# Altium footprint library Fuse.PcbLib: 117 footprints (part 7 of 8)
Each footprint in its own frame and in the unit in brackets; x right, y up, seen from the top. Pads: shape width x height; smd on the part's side, far side on the other; paste and mask are expansions set on the pad; w line width, h text height; cw(c..) or ccw(c..) is an arc to the next point about the centre after c.
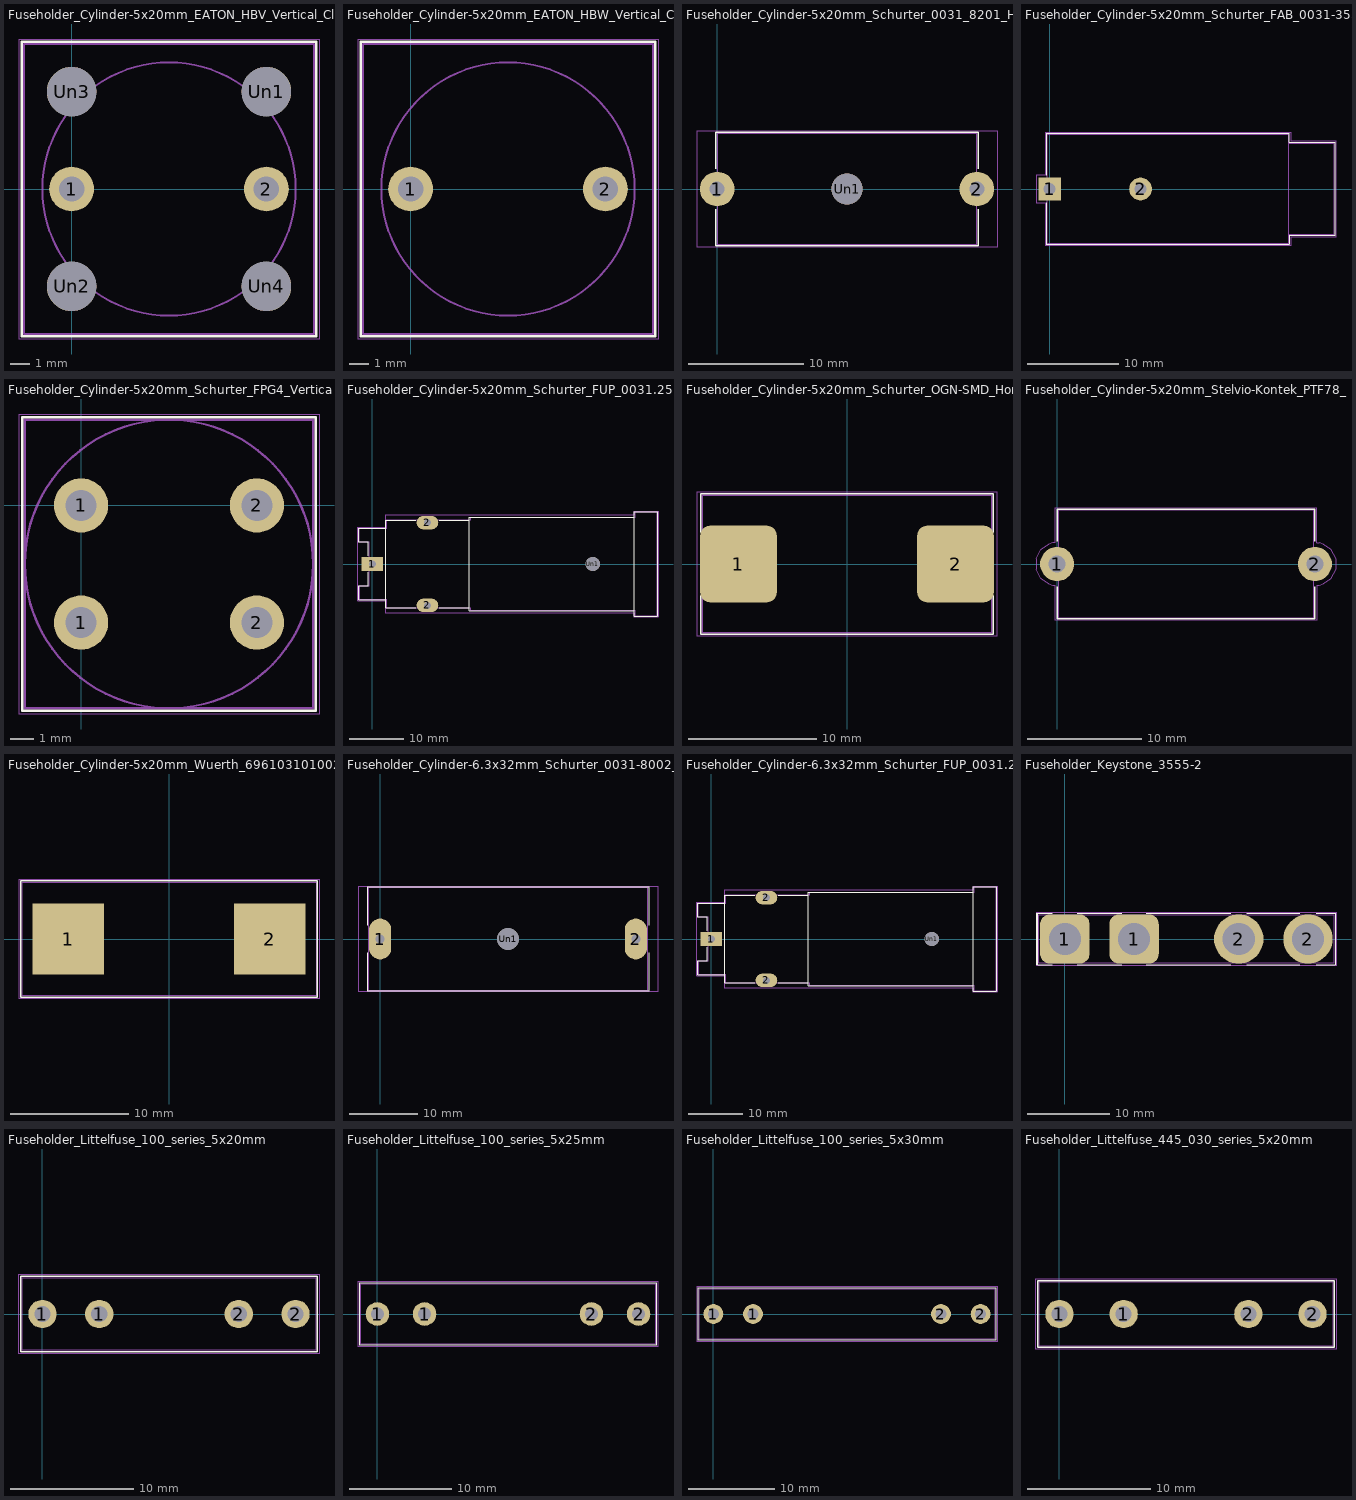
[diagram p6: the footprints below, top view; thin cyan lines are the x and y axes]

## Fuseholder_Cylinder-5x20mm_EATON_HBV_Vertical_Closed [mm]
pads (6):
  round 2.3 hole 1.3: 1(0,0) 2(10,0)
  round 2.54 hole 2.54: Un1(10,5) Un2(0,-5) Un3(0,5) Un4(10,-5)
F.SilkS:
  lines w0.12: -2.56,-7.56 12.56,-7.56 12.56,7.56 -2.56,7.56 -2.56,-7.56
F.CrtYd:
  lines w0.05: -2.7,-7.7 12.7,-7.7 12.7,7.7 -2.7,7.7 -2.7,-7.7
F.Fab:
  circle w0.1: c5,0 r6.5
  lines w0.1: -2.45,-7.45 -2.45,7.45 12.45,7.45 12.45,-7.45 -2.45,-7.45
  text "'.Designator'" at 0.953,-0.84 h1

## Fuseholder_Cylinder-5x20mm_EATON_HBW_Vertical_Closed [mm]
pads (2):
  round 2.3 hole 1.3: 1(0,0) 2(10,0)
F.SilkS:
  lines w0.12: -2.56,-7.56 -2.56,7.56 12.56,7.56 12.56,-7.56 -2.56,-7.56
F.CrtYd:
  lines w0.05: -2.7,-7.7 12.7,-7.7 12.7,7.7 -2.7,7.7 -2.7,-7.7
F.Fab:
  circle w0.1: c5,0 r6.5
  lines w0.1: -2.45,-7.45 12.45,-7.45 12.45,7.45 -2.45,7.45 -2.45,-7.45
  text "'.Designator'" at 0.953,-0.84 h1

## Fuseholder_Cylinder-5x20mm_Schurter_0031_8201_Horizontal_Open [mm]
pads (3):
  round 3 hole 1.3: 1(0,0) 2(22.5,0)
  round 2.7 hole 2.7: Un1(11.25,0)
F.SilkS:
  lines w0.12: -0.11,-1.75 -0.11,-4.91 22.61,-4.91 22.61,-1.75 ; -0.11,1.75 -0.11,4.91 22.61,4.91 22.61,1.75
F.CrtYd:
  lines w0.05: -1.75,-5.05 -1.75,5.05 24.25,5.05 24.25,-5.05 -1.75,-5.05
F.Fab:
  lines w0.1: 0,-4.8 22.5,-4.8 22.5,4.8 0,4.8 0,-4.8
  text "'.Designator'" at 7.203,-4.84 h1

## Fuseholder_Cylinder-5x20mm_Schurter_FAB_0031-355x_Horizontal_Closed [mm]
pads (2):
  rect 2.5x2.5 hole 1.3: 1(0,0)
  round 2.5 hole 1.3: 2(10,0)
F.SilkS:
  lines w0.12: -0.35,-1.5 -0.35,-6.1 26.35,-6.1 26.35,-5.13 31.35,-5.13 31.35,5.13 26.35,5.13 26.35,6.1 -0.35,6.1 -0.35,1.5
F.CrtYd:
  lines w0.05: -1.5,-1.5 -0.5,-1.5 -0.5,-6.25 26.5,-6.25 26.5,-5.28 31.5,-5.28 31.5,5.28 26.5,5.28 26.5,6.25 -0.5,6.25 -0.5,1.5 -1.5,1.5 -1.5,-1.5
F.Fab:
  lines w0.1: 26.25,-5.03 31.25,-5.03 31.25,5.03 26.25,5.03 ; -0.25,-6 26.25,-6 26.25,6 -0.25,6 -0.25,-6
  text "'.Designator'" at 8.953,-6.09 h1

## Fuseholder_Cylinder-5x20mm_Schurter_FPG4_Vertical_Closed [mm]
pads (4):
  round 2.35 hole 1.35: 1(0,-5.08) 1(0,0) 2(7.62,-5.08) 2(7.62,0)
F.SilkS:
  lines w0.12: -2.55,-8.9 -2.55,3.82 10.17,3.82 10.17,-8.9 -2.55,-8.9
F.CrtYd:
  lines w0.05: -2.69,-9.04 -2.69,3.96 10.31,3.96 10.31,-9.04 -2.69,-9.04
F.Fab:
  circle w0.1: c3.81,-2.54 r6.25
  lines w0.1: -2.44,-8.79 -2.44,3.71 10.06,3.71 10.06,-8.79 -2.44,-8.79
  text "'.Designator'" at -0.237,-3.38 h1

## Fuseholder_Cylinder-5x20mm_Schurter_FUP_0031.2510_Horizontal_Closed [mm]
pads (4):
  rect 4x2.5 hole 1.3: 1(0,0)
  rrect100% 4x2.5 hole 1.3: 2(10.16,-7.62) 2(10.16,7.62)
  round 2.6 hole 2.6: Un1(40.64,0)
F.SilkS:
  lines w0.12: -0.75,-1.5 -0.75,-4 -2.5,-4 -2.5,-6.6 2.5,-6.6 ; -0.75,1.5 -0.75,4 -2.5,4 -2.5,6.6 2.5,6.6 ; 8,-8.1 2.5,-8.1 2.5,8.1 8,8.1 ; 12.3,-8.1 17.9,-8.1 ; 12.3,8.1 17.9,8.1 ; 48.3,-8.65 17.9,-8.65 17.9,8.65 48.3,8.65 ; 48.3,-9.6 52.5,-9.6 52.5,9.6 48.3,9.6 48.3,-9.6
F.CrtYd:
  lines w0.05: -2.64,-6.75 2.36,-6.75 2.36,-9.12 48.16,-9.12 48.16,-9.75 52.66,-9.75 52.66,9.75 48.16,9.75 48.16,9.12 2.36,9.12 2.36,6.75 -2.64,6.75 -2.64,-6.75
F.Fab:
  lines w0.1: -2.39,-6.5 -2.39,-4.1 -0.65,-4.1 -0.65,4.1 -2.39,4.1 -2.39,6.5 2.61,6.5 2.61,8.02 18.01,8.02 18.01,8.55 48.41,8.55 48.41,9.5 52.41,9.5 52.41,-9.5 48.41,-9.5 48.41,-8.55 18.01,-8.55 18.01,-8.02 2.61,-8.02 2.61,-6.5 -2.39,-6.5
  text "'.Designator'" at 19.703,-0.84 h1

## Fuseholder_Cylinder-5x20mm_Schurter_OGN-SMD_Horizontal_Open [mm]
pads (2):
  rrect25% 6x6 smd: 1(-8.5,0) 2(8.5,0)
F.SilkS:
  lines w0.12: -11.45,-2.5 -11.45,-5.5 11.45,-5.5 11.45,-2.5 ; -11.45,2.5 -11.45,5.5 11.45,5.5 11.45,2.5
F.CrtYd:
  lines w0.05: -11.75,-5.65 11.75,-5.65 11.75,5.65 -11.75,5.65 -11.75,-5.65
F.Fab:
  lines w0.1: -11.35,-5.4 -11.35,5.4 11.35,5.4 11.35,-5.4 -11.35,-5.4
  text "'.Designator'" at -4.047,-0.84 h1

## Fuseholder_Cylinder-5x20mm_Stelvio-Kontek_PTF78_Horizontal_Open [mm]
pads (2):
  round 3 hole 1.5: 1(0,0) 2(22.6,0)
F.SilkS:
  lines w0.12: 0,-2 0,-4.8 22.6,-4.8 22.6,-2 ; 0,2 0,4.8 22.6,4.8 22.6,2
F.CrtYd:
  lines w0.05: -1.85,-0.45 -1.45,-1.25 -0.75,-1.75 -0.4,-1.85 -0.15,-1.85 -0.15,-4.95 22.75,-4.95 22.75,-1.85 23,-1.85 23.35,-1.75 24.05,-1.25 24.45,-0.45 24.45,0.45 24.05,1.25 23.35,1.75 23,1.85 22.75,1.85 22.75,4.95 -0.15,4.95 -0.15,1.85 -0.4,1.85 -0.75,1.75 -1.45,1.25 -1.85,0.45 -1.85,-0.45
F.Fab:
  lines w0.1: 0.1,-4.7 22.5,-4.7 22.5,4.7 0.1,4.7 0.1,-4.7
  text "'.Designator'" at 7.203,-4.84 h1

## Fuseholder_Cylinder-5x20mm_Wuerth_696103101002-SMD_Horizontal_Open [mm]
pads (2):
  rect 6x6 smd: 1(-8.5,0) 2(8.5,0)
F.SilkS:
  lines w0.12: -12.5,-4.9 12.5,-4.9 12.5,4.9 -12.5,4.9 -12.5,-4.9
F.CrtYd:
  lines w0.05: -12.65,-5.05 12.65,-5.05 12.65,5.05 -12.65,5.05 -12.65,-5.05
F.Fab:
  lines w0.1: -12.4,-4.8 12.4,-4.8 12.4,4.8 -12.4,4.8 -12.4,-4.8
  text "'.Designator'" at -4.047,5.41 h1
  text "'.Designator'" at -4.047,5.41 h1

## Fuseholder_Cylinder-6.3x32mm_Schurter_0031-8002_Horizontal_Open [mm]
pads (3):
  rrect100% 3.25x6 hole 1.3: 1(0,0) 2(37.5,0)
  round 3.2 hole 3.2: Un1(18.75,0)
F.SilkS:
  lines w0.12: -1.88,-2 -1.88,-7.63 39.38,-7.63 39.38,-2 ; -1.88,2 -1.88,7.63 39.38,7.63 39.38,2
F.CrtYd:
  lines w0.05: -3.25,-7.75 -3.25,7.75 40.75,7.75 40.75,-7.75 -3.25,-7.75
F.Fab:
  lines w0.1: -1.75,-7.5 39.25,-7.5 39.25,7.5 -1.75,7.5 -1.75,-7.5
  text "'.Designator'" at 15.453,-7.34 h1

## Fuseholder_Cylinder-6.3x32mm_Schurter_FUP_0031.2520_Horizontal_Closed [mm]
pads (4):
  rect 4x2.5 hole 1.3: 1(0,0)
  rrect100% 4x2.5 hole 1.3: 2(10.16,-7.62) 2(10.16,7.62)
  round 2.6 hole 2.6: Un1(40.64,0)
F.SilkS:
  lines w0.12: -0.75,-1.5 -0.75,-4 -2.5,-4 -2.5,-6.6 2.5,-6.6 ; -0.75,1.5 -0.75,4 -2.5,4 -2.5,6.6 2.5,6.6 ; 8,-8.1 2.5,-8.1 2.5,8.1 8,8.1 ; 12.3,-8.1 17.9,-8.1 ; 12.3,8.1 17.9,8.1 ; 48.3,-8.65 17.9,-8.65 17.9,8.65 48.3,8.65 ; 48.3,-9.6 52.5,-9.6 52.5,9.6 48.3,9.6 48.3,-9.6
F.CrtYd:
  lines w0.05: -2.64,-6.75 2.36,-6.75 2.36,-9.12 48.16,-9.12 48.16,-9.75 52.66,-9.75 52.66,9.75 48.16,9.75 48.16,9.12 2.36,9.12 2.36,6.75 -2.64,6.75 -2.64,-6.75
F.Fab:
  lines w0.1: -2.39,-6.5 2.61,-6.5 2.61,-8.02 18.01,-8.02 18.01,-8.55 48.41,-8.55 48.41,-9.5 52.41,-9.5 52.41,9.5 48.41,9.5 48.41,8.55 18.01,8.55 18.01,8.02 2.61,8.02 2.61,6.5 -2.39,6.5 -2.39,4.1 -0.65,4.1 -0.65,-4.1 -2.39,-4.1 -2.39,-6.5
  text "'.Designator'" at 19.703,-0.84 h1

## Fuseholder_Keystone_3555-2 [mm]
pads (4):
  rrect40% 6x6 hole 3.9: 1(0,0) 1(8.4,0)
  round 6 hole 3.9: 2(21.1,0) 2(29.5,0)
F.SilkS:
  lines w0.12: -3.5,-3.1 -3.5,3.1 ; -1.5,-3.1 -3.3,-3.1 -3.3,3.1 -1.5,3.1 ; 1.5,-3.1 6.9,-3.1 ; 1.5,3.1 6.9,3.1 ; 9.9,-3.1 20.1,-3.1 ; 9.9,3.1 20.1,3.1 ; 22.1,-3.1 28.5,-3.1 ; 22.1,3.1 28.5,3.1 ; 30.5,-3.1 32.8,-3.1 32.8,3.1 30.5,3.1
F.CrtYd:
  lines w0.05: -3.4,-3.25 -3.4,3.25 32.9,3.25 32.9,-3.25 -3.4,-3.25
F.Fab:
  lines w0.1: -3.15,-2.95 32.65,-2.95 32.65,2.95 -3.15,2.95 -3.15,-2.95
  text "'.Designator'" at 10.703,-0.84 h1

## Fuseholder_Littelfuse_100_series_5x20mm [mm]
pads (4):
  round 2.3 hole 1.3: 1(0,0) 1(4.6,0) 2(15.9,0) 2(20.5,0)
F.SilkS:
  lines w0.12: -1.75,-3.05 -1.75,3.05 22.25,3.05 22.25,-3.05 -1.75,-3.05
F.CrtYd:
  lines w0.05: -1.9,-3.2 22.4,-3.2 22.4,3.2 -1.9,3.2 -1.9,-3.2
F.Fab:
  lines w0.1: -1.65,-2.95 -1.65,2.95 22.15,2.95 22.15,-2.95 -1.65,-2.95
  text "'.Designator'" at 6.203,-0.84 h1

## Fuseholder_Littelfuse_100_series_5x25mm [mm]
pads (4):
  round 2.3 hole 1.3: 1(0,0) 1(4.6,0) 2(20.9,0) 2(25.5,0)
F.SilkS:
  lines w0.12: -1.75,-3.05 27.25,-3.05 27.25,3.05 -1.75,3.05 -1.75,-3.05
F.CrtYd:
  lines w0.05: -1.9,-3.2 27.4,-3.2 27.4,3.2 -1.9,3.2 -1.9,-3.2
F.Fab:
  lines w0.1: -1.65,-2.95 27.15,-2.95 27.15,2.95 -1.65,2.95 -1.65,-2.95
  text "'.Designator'" at 8.703,-0.84 h1

## Fuseholder_Littelfuse_100_series_5x30mm [mm]
pads (4):
  round 2.3 hole 1.3: 1(0,0) 1(4.6,0) 2(26.4,0) 2(31,0)
F.SilkS:
  lines w0.12: -1.75,-3.05 -1.75,3.05 32.75,3.05 32.75,-3.05 -1.75,-3.05
F.CrtYd:
  lines w0.05: -1.9,-3.2 32.9,-3.2 32.9,3.2 -1.9,3.2 -1.9,-3.2
F.Fab:
  lines w0.1: -1.65,-2.95 32.65,-2.95 32.65,2.95 -1.65,2.95 -1.65,-2.95
  text "'.Designator'" at 11.453,-0.84 h1

## Fuseholder_Littelfuse_445_030_series_5x20mm [mm]
pads (4):
  round 2.3 hole 1.3: 1(0,0) 1(5.2,0) 2(15.3,0) 2(20.5,0)
F.SilkS:
  lines w0.12: -1.75,-2.7 -1.75,2.7 22.25,2.7 22.25,-2.7 -1.75,-2.7
F.CrtYd:
  lines w0.05: -1.9,-2.85 22.4,-2.85 22.4,2.85 -1.9,2.85 -1.9,-2.85
F.Fab:
  lines w0.1: -1.65,-2.6 22.15,-2.6 22.15,2.6 -1.65,2.6 -1.65,-2.6
  text "'.Designator'" at 6.203,-0.84 h1